# EAGLE library part RMX-GNSS-TM (library ORBiT-IC-Linx)
Linx TM Series GNSS Receiver Module The TM Series GNSS receiver module is a self-contained high-performance Global Satellite Navigation System receiver. Based on the MediaTek chipset, it can simultaneously acquire and track multiple satellite constellations. These include the United States GPS system, Europe’s GALILEO, Russia’s GLONASS and Japan’s QZSS. The module has an internal Low Noise Amplifier (LNA) that provides exceptional sensitivity, even in dense foliage and urban canyons. It’s very low power consumption helps maximize runtimes in battery powered applications. Hybrid ephemeris prediction can be used to achieve cold start times of less than 15 seconds. The module outputs standard NMEA data through a UART interface. Housed in a tiny reflow-compatible SMD package, the receiver requires no programming or additional RF components (except an antenna) to form a complete GNSS solution. This makes the TM Series easy to integrate, even by engineers without previous RF or GNSS experience. Technical data: TM Series GNSS Receiver Module <https://linxtechnologies.com/wp/product/tm-series-gnss-receiver-module/>
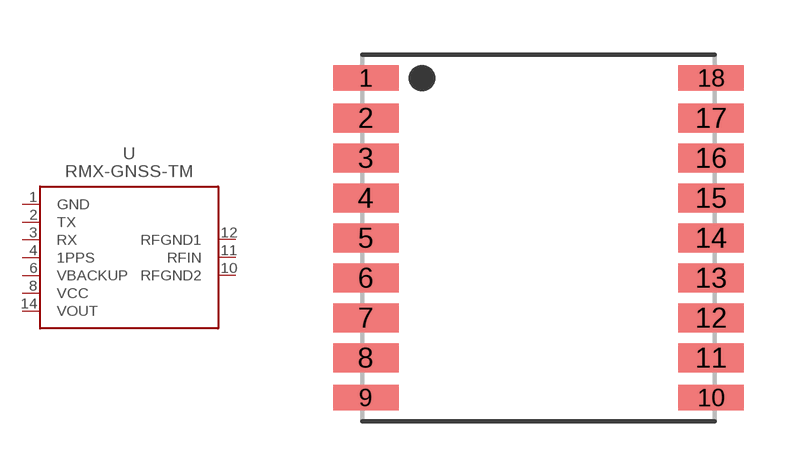
[diagram p0: symbol with the pads of RMX-GNSS-TM; footprint RMX-GNSS-TM]

Designator prefix U

## RMX-GNSS-TM (MF: Linx Technologies; MPN: RXM-GNSS-TM; PN_DIGIKEY: RXM-GNSS-TM-TCT-ND; PN_MOUSER: 712-RXM-GNSS-TM-B)  [RMX-GNSS-TM]
1  GND  sup
2  TX  out
3  RX  in
4  1PPS  out
6  VBACKUP  sup
8  VCC  sup
10  RFGND2  sup
11  RFIN  in
12  RFGND1  sup
14  VOUT  out

## Footprint RMX-GNSS-TM (pad centres in mm)
Linx TM Series GNSS Receiver Module
smd 1.8 x 0.7: 1 -4.75,4.4; 9 -4.75,-4.4; 10 4.75,-4.4; 18 4.75,4.4
smd 1.8 x 0.8: 2 -4.75,3.3; 3 -4.75,2.2; 4 -4.75,1.1; 5 -4.75,0; 6 -4.75,-1.1; 7 -4.75,-2.2; 8 -4.75,-3.3; 11 4.75,-3.3; 12 4.75,-2.2; 13 4.75,-1.1; 14 4.75,0; 15 4.75,1.1; 16 4.75,2.2; 17 4.75,3.3